# EAGLE library part MAX3421E (library SparkFun-IC-Comms)
MAX3421EEHJ USB Peripheral / Host Controller. SPI, 32TQFP SparkFun Products SparkFun USB Host Shield <https://www.sparkfun.com/products/9947> (DEV-09947)
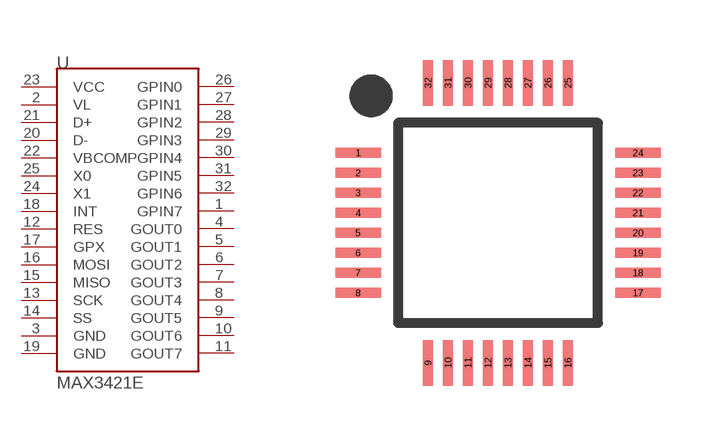
[diagram p9: symbol with the pads of TQFP32-5MM; footprint TQFP32-5MM]

Designator prefix U

## MAX3421ESMD (PROD_ID: IC-09517; VALUE: MAX3421)  [TQFP32-5MM]
1  GPIN7
2  VL
3  GND
4  GOUT0
5  GOUT1
6  GOUT2
7  GOUT3
8  GOUT4
9  GOUT5
10  GOUT6
11  GOUT7
12  RES
13  SCK
14  SS
15  MISO
16  MOSI
17  GPX
18  INT
19  GND
20  D-
21  D+
22  VBCOMP
23  VCC
24  X1
25  X0
26  GPIN0
27  GPIN1
28  GPIN2
29  GPIN3
30  GPIN4
31  GPIN5
32  GPIN6

## Footprint TQFP32-5MM (pad centres in mm)
TQFP - 32 Specifications: Pin count: 32 Pin pitch:5mm Example device(s): MAX3421E
smd 1.143 x 0.254: 1 -3.5,1.75; 2 -3.5,1.25; 3 -3.5,0.75; 4 -3.5,0.25; 5 -3.5,-0.25; 6 -3.5,-0.75; 7 -3.5,-1.25; 8 -3.5,-1.75; 17 3.5,-1.75; 18 3.5,-1.25; 19 3.5,-0.75; 20 3.5,-0.25; 21 3.5,0.25; 22 3.5,0.75; 23 3.5,1.25; 24 3.5,1.75
smd 0.254 x 1.143: 9 -1.75,-3.5; 10 -1.25,-3.5; 11 -0.75,-3.5; 12 -0.25,-3.5; 13 0.25,-3.5; 14 0.75,-3.5; 15 1.25,-3.5; 16 1.75,-3.5; 25 1.75,3.5; 26 1.25,3.5; 27 0.75,3.5; 28 0.25,3.5; 29 -0.25,3.5; 30 -0.75,3.5; 31 -1.25,3.5; 32 -1.75,3.5